# Altium footprint library B1212S-3WR2.PcbLib: 1 footprints
Each footprint in its own frame and in the unit in brackets; x right, y up, seen from the top. Pads: shape width x height; smd on the part's side, far side on the other; paste and mask are expansions set on the pad; w line width, h text height; cw(c..) or ccw(c..) is an arc to the next point about the centre after c.
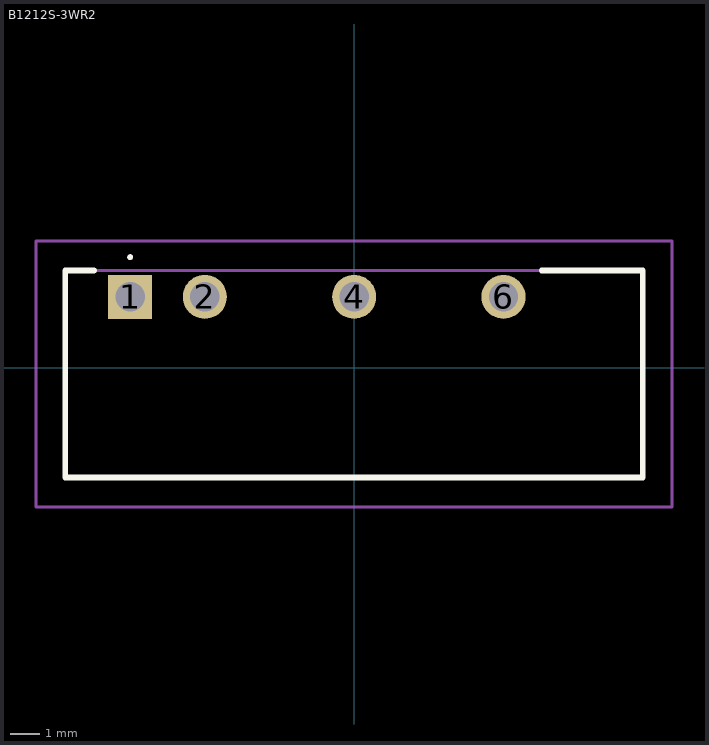
[diagram p0: the footprint, top view; thin cyan lines are the x and y axes]

## B1212S-3WR2 [mm]
pads (4):
  rect 1.5x1.5 hole 1: 1(-7.62,2.413)
  round 1.5 hole 1: 2(-5.08,2.413) 4(0,2.413) 6(5.08,2.413)
Top Overlay:
  lines w0.1: -7.62,3.713 cw(c-7.62,3.763) -7.62,3.813 cw(c-7.62,3.763) -7.62,3.713
  lines w0.2: -8.848,3.313 -9.83,3.313 -9.83,-3.737 9.82,-3.737 9.82,3.313 6.381,3.313
Mechanical 13:
  lines w0.1: -9.83,-3.737 9.82,-3.737 9.82,3.313 -9.83,3.313 -9.83,-3.737
Mechanical 15:
  lines w0.1: -10.83,-4.737 10.82,-4.737 10.82,4.313 -10.83,4.313 -10.83,-4.737
3D body "B1212S-3WR2.STEP": height 10, standoff -4.1, extent -9.8,-3.683 9.8,3.317